# EAGLE library part DIL68 (library ic-package)
Dual In Line
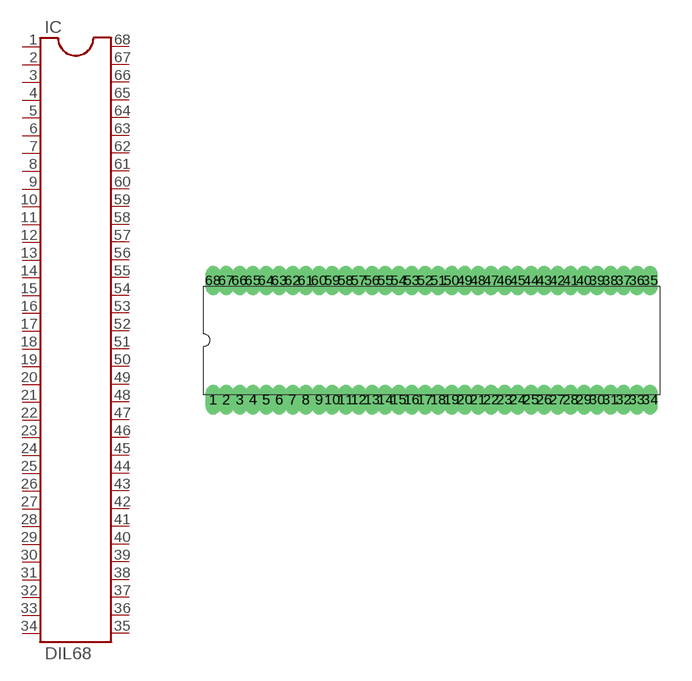
[diagram p18: symbol with the pads of DIL68; footprint DIL68]

Designator prefix IC

## DIL68  [DIL68]
1  1  pas
2  2  pas
3  3  pas
4  4  pas
5  5  pas
6  6  pas
7  7  pas
8  8  pas
9  9  pas
10  10  pas
11  11  pas
12  12  pas
13  13  pas
14  14  pas
15  15  pas
16  16  pas
17  17  pas
18  18  pas
19  19  pas
20  20  pas
21  21  pas
22  22  pas
23  23  pas
24  24  pas
25  25  pas
26  26  pas
27  27  pas
28  28  pas
29  29  pas
30  30  pas
31  31  pas
32  32  pas
33  33  pas
34  34  pas
35  35  pas
36  36  pas
37  37  pas
38  38  pas
39  39  pas
40  40  pas
41  41  pas
42  42  pas
43  43  pas
44  44  pas
45  45  pas
46  46  pas
47  47  pas
48  48  pas
49  49  pas
50  50  pas
51  51  pas
52  52  pas
53  53  pas
54  54  pas
55  55  pas
56  56  pas
57  57  pas
58  58  pas
59  59  pas
60  60  pas
61  61  pas
62  62  pas
63  63  pas
64  64  pas
65  65  pas
66  66  pas
67  67  pas
68  68  pas

## Footprint DIL68 (pad centres in mm)
Dual In Line
drill 0.203 long: 1 -10.477,-2.857; 2 -9.842,-2.857; 3 -9.207,-2.857; 4 -8.572,-2.857; 5 -7.938,-2.857; 6 -7.303,-2.857; 7 -6.668,-2.857; 8 -6.032,-2.857; 9 -5.397,-2.857; 10 -4.763,-2.857; 11 -4.128,-2.857; 12 -3.493,-2.857; 13 -2.857,-2.857; 14 -2.223,-2.857; 15 -1.587,-2.857; 16 -0.953,-2.857; 17 -0.318,-2.857; 18 0.318,-2.857; 19 0.953,-2.857; 20 1.587,-2.857; 21 2.223,-2.857; 22 2.857,-2.857; 23 3.493,-2.857; 24 4.128,-2.857; 25 4.763,-2.857; 26 5.397,-2.857; 27 6.032,-2.857; 28 6.668,-2.857; 29 7.303,-2.857; 30 7.938,-2.857; 31 8.572,-2.857; 32 9.207,-2.857; 33 9.842,-2.857; 34 10.477,-2.857; 35 10.477,2.857; 36 9.842,2.857; 37 9.207,2.857; 38 8.572,2.857; 39 7.938,2.857; 40 7.303,2.857; 41 6.668,2.857; 42 6.032,2.857; 43 5.397,2.857; 44 4.763,2.857; 45 4.128,2.857; 46 3.493,2.857; 47 2.857,2.857; 48 2.223,2.857; 49 1.587,2.857; 50 0.953,2.857; 51 0.318,2.857; 52 -0.318,2.857; 53 -0.953,2.857; 54 -1.587,2.857; 55 -2.223,2.857; 56 -2.857,2.857; 57 -3.493,2.857; 58 -4.128,2.857; 59 -4.763,2.857; 60 -5.397,2.857; 61 -6.032,2.857; 62 -6.668,2.857; 63 -7.303,2.857; 64 -7.938,2.857; 65 -8.572,2.857; 66 -9.207,2.857; 67 -9.842,2.857; 68 -10.477,2.857